# Altium footprint library BoardB.PcbLib: 15 footprints
Each footprint in its own frame and in the unit in brackets; x right, y up, seen from the top. Pads: shape width x height; smd on the part's side, far side on the other; paste and mask are expansions set on the pad; w line width, h text height; cw(c..) or ccw(c..) is an arc to the next point about the centre after c.
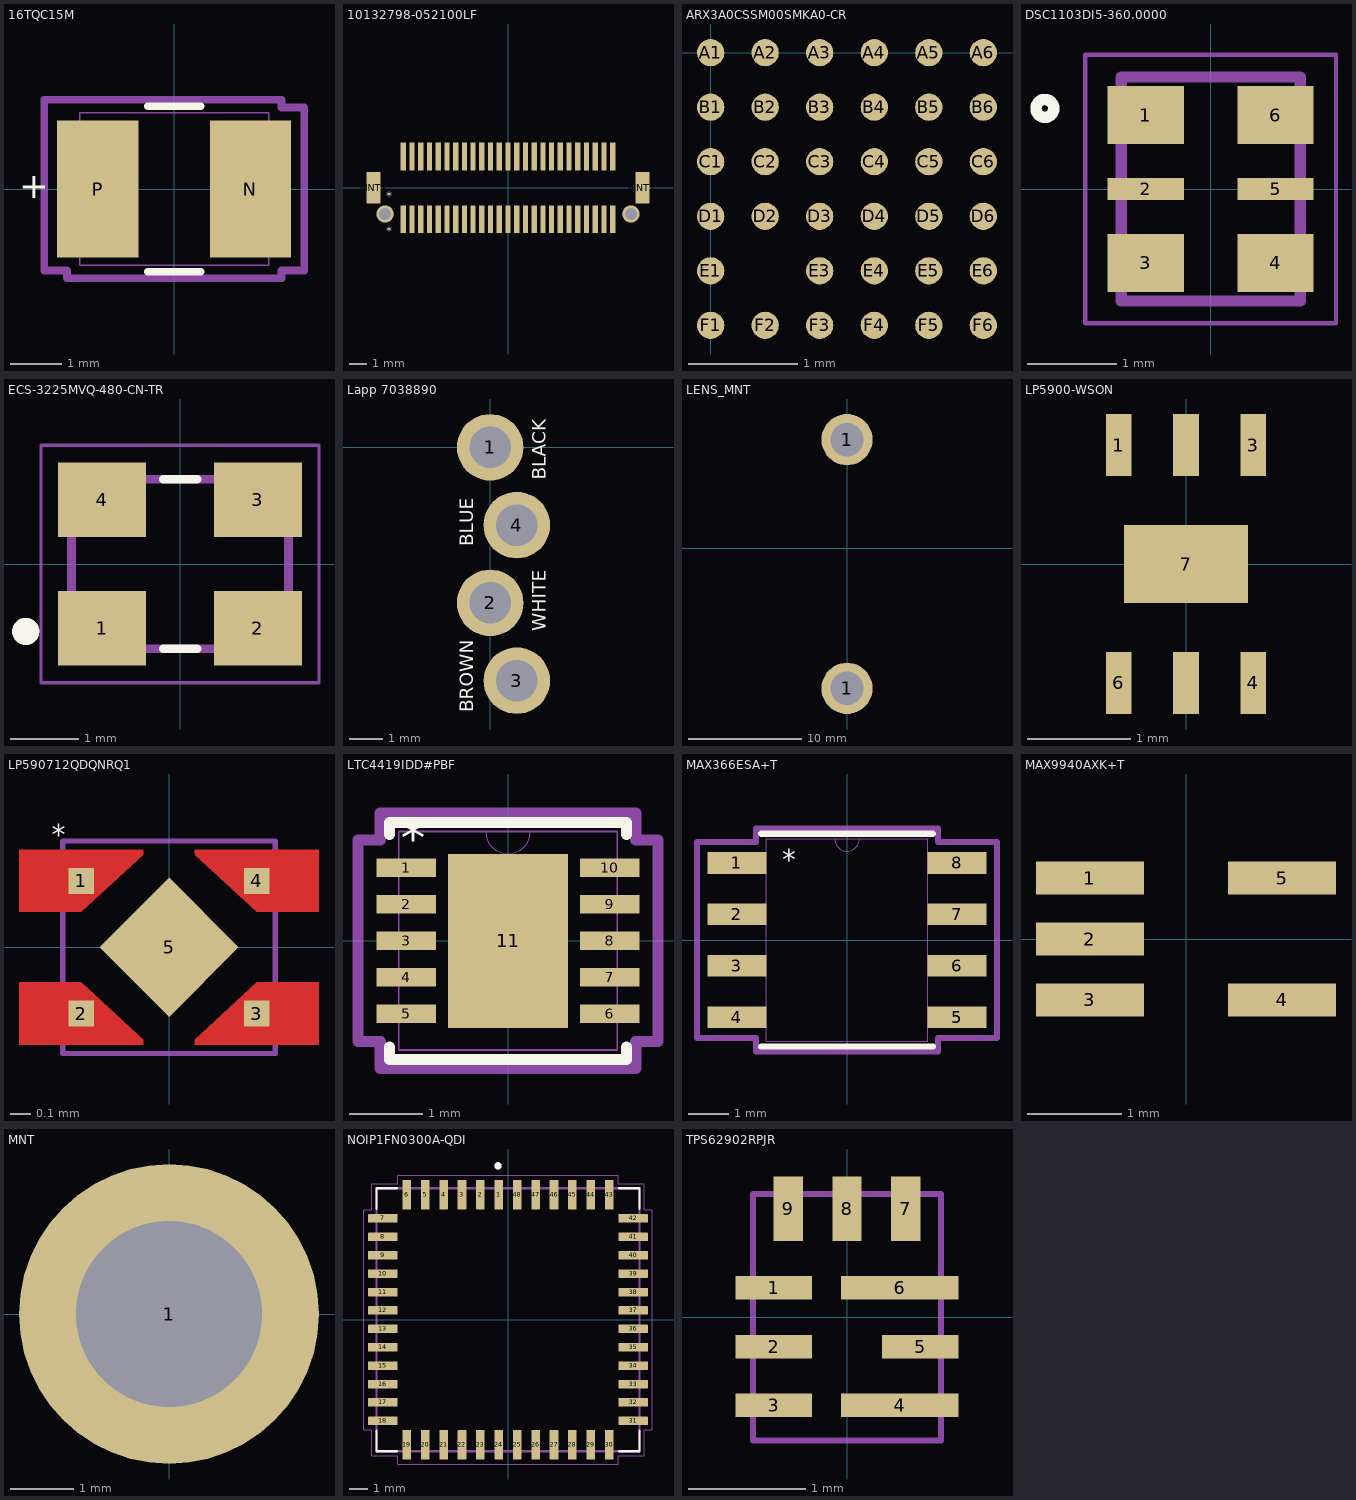
[diagram p0: the footprints below, top view; thin cyan lines are the x and y axes]

## 16TQC15M [mil]
pads (2):
  rect 63x106 smd paste+0 mask+0: N(59,0) P(-59,0)
Top Overlay:
  lines w6: -20.39,-64 20.39,-64 ; -20.39,64 20.39,64
  text "+" at -120.08,-7.27 h20
Mechanical 13:
  lines w1: -73,-59 73,-59 73,59 -73,59 -73,-59
Mechanical 15:
  lines w6: -100.5,-63 -100.5,69 -83,69 83,69 83,63 100.5,63 100.5,-63 83,-63 83,-69 -83,-69 -83,-63 -100.5,-63
3D body: height 10, standoff 0, extent 0,0 10,10
3D body "16TQC15M.step": height 79.52, standoff 0.5, extent -72.99,-59.09 73,59.1

## 10132798-052100LF [mm]
pads (54):
  rect 0.3x1.6 smd: 1(-6,-1.8) 2(-5.5,-1.8) 3(-5,-1.8) 4(-4.5,-1.8) 5(-4,-1.8) 6(-3.5,-1.8) 7(-3,-1.8) 8(-2.5,-1.8) 9(-2,-1.8) 10(-1.5,-1.8) 11(-1,-1.8) 12(-0.5,-1.8) 13(0,-1.8) 14(0.5,-1.8) 15(1,-1.8) 16(1.5,-1.8) 17(2,-1.8) 18(2.5,-1.8) 19(3,-1.8) 20(3.5,-1.8) 21(4,-1.8) 22(4.5,-1.8) 23(5,-1.8) 24(5.5,-1.8) 25(6,-1.8) 26(-6,1.8) 27(-5.5,1.8) 28(-5,1.8) 29(-4.5,1.8) 30(-4,1.8) 31(-3.5,1.8) 32(-3,1.8) 33(-2.5,1.8) 34(-2,1.8) 35(-1.5,1.8) 36(-1,1.8) 37(-0.5,1.8) 38(0,1.8) 39(0.5,1.8) 40(1,1.8) 41(1.5,1.8) 42(2,1.8) 43(2.5,1.8) 44(3,1.8) 45(3.5,1.8) 46(4,1.8) 47(4.5,1.8) 48(5,1.8) 49(5.5,1.8) 50(6,1.8)
  rect 0.8x1.8 smd: MNT1(-7.7,0) MNT2(7.7,0)
  round 1 hole 0.7: MNT1(-7.05,-1.5) MNT2(7.05,-1.5)
Top Overlay:
  text "*" at -6.625,-0.733 h0.5
  text "*" at -6.625,-2.733 h0.5
3D body "10132798-052100LF.stp": height 2.7, standoff -0.5, extent -7.8,-2.3 7.8,2.3

## ARX3A0CSSM00SMKA0-CR [mm]
pads (35):
  round 0.25 smd: A1(0,0) A2(0.5,0) A3(1,0) A4(1.5,0) A5(2,0) A6(2.5,0) B1(0,-0.5) B2(0.5,-0.5) B3(1,-0.5) B4(1.5,-0.5) B5(2,-0.5) B6(2.5,-0.5) C1(0,-1) C2(0.5,-1) C3(1,-1) C4(1.5,-1) C5(2,-1) C6(2.5,-1) D1(0,-1.5) D2(0.5,-1.5) D3(1,-1.5) D4(1.5,-1.5) D5(2,-1.5) D6(2.5,-1.5) E1(0,-2) E3(1,-2) E4(1.5,-2) E5(2,-2) E6(2.5,-2) F1(0,-2.5) F2(0.5,-2.5) F3(1,-2.5) F4(1.5,-2.5) F5(2,-2.5) F6(2.5,-2.5)
3D body "ARX3A0CSSM00SMKA0-CR.step": height 0.73, standoff 0.01, extent -0.444,-2.957 2.946,0.483

## DSC1103DI5-360.0000 [mm]
pads (6):
  rect 0.85x0.65 smd: 1(-0.725,0.825) 3(-0.725,-0.825) 4(0.725,-0.825) 6(0.725,0.825)
  rect 0.85x0.25 smd: 2(-0.725,0) 5(0.725,0)
Top Overlay:
  circle w0.127: c-1.85,0.9 r0.1
Mechanical 13:
  lines w0.127: -1,-1.25 1,-1.25 1,1.25 -1,1.25 -1,-1.25
Mechanical 15:
  lines w0.05: -1.4,-1.5 1.4,-1.5 1.4,1.5 -1.4,1.5 -1.4,-1.5
3D body "step_temp.STEP": height 0.88, standoff -0.02, extent -1,-1.25 1,1.25

## ECS-3225MVQ-480-CN-TR [mm]
pads (4):
  rect 1.3x1.1 smd: 1(-1.15,-0.95) 2(1.15,-0.95) 3(1.15,0.95) 4(-1.15,0.95)
Top Overlay:
  circle w0.2: c-2.275,-0.994 r0.1
  lines w0.127: -0.25,-1.25 0.25,-1.25 ; -0.25,1.25 0.25,1.25
Mechanical 13:
  circle w0.2: c-2.275,-0.994 r0.1
  lines w0.127: -1.6,-1.25 1.6,-1.25 1.6,1.25 -1.6,1.25 -1.6,-1.25
Mechanical 15:
  lines w0.05: -2.05,-1.75 -2.05,1.75 2.05,1.75 2.05,-1.75 -2.05,-1.75
3D body "ECS-3225MVQ-480-CN-TR.step": height 1.21, standoff 0.01, extent -1.6,-1.255 1.6,1.245

## Lapp 7038890 [mm]
pads (4):
  round 2 hole 1.25: 1(0,0) 2(0,-4.667) 3(0.8,-7) 4(0.8,-2.333)
Top Overlay:
  text "BLUE" at -0.505,-2.97 h0.4
  text "WHITE" at 1.67,-5.52 h0.4
  text "BROWN" at -0.505,-7.945 h0.4
  text "BLACK" at 1.67,-0.97 h0.4
Bottom Overlay:
  text "BLUE" at -0.497,-1.515 h0.4
  text "WHITE" at 1.678,-3.708 h0.4
  text "BROWN" at -0.495,-6.083 h0.4
  text "BLACK" at 1.67,0.895 h0.4
  text "LAPP 7038890" at -1.28,-1.03 h0.4

## LENS_MNT [mil]
pads (2):
  round 178.5 hole 116: 1(0,-488.19) 1(0,377.95)
3D body "LENS_MNT.step": height 896.13, standoff -164.32, extent -401.57,-579.69 401.58,469.46

## LP5900-WSON [mm]
pads (7):
  rrect0% 0.25x0.6 smd: 1(-0.65,1.15) 3(0.65,1.15) 4(0.65,-1.15) 6(-0.65,-1.15) ""(0,-1.15) ""(0,1.15)
  rrect0% 1.2x0.75 smd: 7(0,0)
3D body "LP5900-WSON.step": height 0.8, standoff 0, extent -1.092,-1.25 1.108,1.25

## LP590712QDQNRQ1 [mil]
pads (5):
  rect 5x5 smd: 1(-16.93,12.8) 2(-16.93,-12.8) 3(16.93,-12.8) 4(16.93,12.8)
  rect 19x19 smd rot 45 paste-9.5 mask+0: 5(0,0)
Top Layer:
  region: -4.93,-17.8 -4.93,-18.8 -28.93,-18.8 -28.93,-6.8 -16.93,-6.8
  region: 0,9.5
  region: 0,-9.5
  region: 4.93,-17.8 4.93,-18.8 28.93,-18.8 28.93,-6.8 16.93,-6.8
  region: 4.93,17.8 4.93,18.8 28.93,18.8 28.93,6.8 16.93,6.8
  region: -4.93,17.8 -4.93,18.8 -28.93,18.8 -28.93,6.8 -16.93,6.8
Top Overlay:
  text "*" at -22.61,19.74 h3.94
Top Solder:
  region: 0,9.5
  region: 0,-9.5
Mechanical 13:
  lines w1: -20.5,-20.5 20.5,-20.5 20.5,20.5 -20.5,20.5 -20.5,-20.5
3D body "LP590712QDQNRQ1.stp": height 14.39, standoff 0.21, extent -19.69,-19.68 19.68,19.69

## LTC4419IDD#PBF [mil]
pads (11):
  rect 32x10 smd paste+0 mask+0: 1(-55,39.37) 2(-55,19.68) 3(-55,0) 4(-55,-19.68) 5(-55,-39.37) 6(55,-39.37) 7(55,-19.68) 8(55,0) 9(55,19.68) 10(55,39.37)
  rect 65x94 smd paste+0 mask+0: 11(0,0)
Top Overlay:
  lines w6: -64,-57.47 -64,-64 64,-64 64,-57.47 ; -64,57.47 -64,64 64,64 64,57.47
  text "*" at -58.03,45.69 h19.68
Mechanical 13:
  lines w0: -12,59 ccw(c0,59) 12,59
  lines w1: -59,-59 59,-59 59,59 -59,59 -59,-59
Mechanical 15:
  lines w6: -81,-54.37 -81,54.37 -69,54.37 -69,69 69,69 69,54.37 81,54.37 81,-54.37 69,-54.37 69,-69 -69,-69 -69,-54.37 -81,-54.37
3D body: height 10, standoff 0, extent 0,0 10,10
3D body "LTC4419IDD#PBF.step": height 31.5, standoff 0, extent -59,-59.06 59.11,59.06

## MAX366ESA+T [mil]
pads (8):
  rect 57.5x21 smd paste+0 mask+0: 1(-107.25,75) 2(-107.25,25) 3(-107.25,-25) 4(-107.25,-75) 5(107.25,-75) 6(107.25,-25) 7(107.25,25) 8(107.25,75)
Top Overlay:
  lines w6: -83.5,-103.5 83.5,-103.5 ; -83.5,103.5 83.5,103.5
  text "*" at -63,69 h19.68
Mechanical 13:
  lines w0: -12,98.5 ccw(c0,98.5) 12,98.5
  lines w1: -122,-84.5 -78.5,-84.5 -78.5,-65.5 -122,-65.5 -122,-84.5 ; -122,-34.5 -78.5,-34.5 -78.5,-15.5 -122,-15.5 -122,-34.5 ; -122,15.5 -78.5,15.5 -78.5,34.5 -122,34.5 -122,15.5 ; -122,65.5 -78.5,65.5 -78.5,84.5 -122,84.5 -122,65.5 ; -78.5,-98.5 -78.5,98.5 78.5,98.5 78.5,-98.5 -78.5,-98.5 ; 78.5,-84.5 122,-84.5 122,-65.5 78.5,-65.5 78.5,-84.5 ; 78.5,-34.5 122,-34.5 122,-15.5 78.5,-15.5 78.5,-34.5 ; 78.5,15.5 122,15.5 122,34.5 78.5,34.5 78.5,15.5 ; 78.5,65.5 122,65.5 122,84.5 78.5,84.5 78.5,65.5
  text "*" at -63,69 h19.68
Mechanical 15:
  lines w6: -146,-95.5 -88.5,-95.5 -88.5,-108.5 88.5,-108.5 88.5,-95.5 146,-95.5 146,95.5 88.5,95.5 88.5,108.5 -88.5,108.5 -88.5,95.5 -146,95.5 -146,-95.5
3D body: height 10, standoff 0, extent 0,0 10,10
3D body "MAX366ESA+T.step": height 69.09, standoff 0, extent -122,-97.5 122.01,99.51

## MAX9940AXK+T [mm]
pads (5):
  rect 1.15x0.35 smd paste+0 mask+0: 1(-1.025,0.65) 2(-1.025,0) 3(-1.025,-0.65) 4(1.025,-0.65) 5(1.025,0.65)
3D body "MAX9940.step": height 1.09, standoff 0, extent -1.194,-1.105 1.194,1.105

## MNT [mil]
pads (1):
  round 187.5 hole 116: 1(0,0)
3D body "MNT_Spacer.step": height 196.85, standoff 0, extent -93.75,-93.75 93.75,93.75

## NOIP1FN0300A-QDI [mm]
pads (48):
  rrect12% 0.47x1.63 smd: 1(-0.508,6.905) 2(-1.524,6.905) 3(-2.54,6.905) 4(-3.556,6.905) 5(-4.572,6.905) 6(-5.588,6.905) 19(-5.588,-6.905) 20(-4.572,-6.905) 21(-3.556,-6.905) 22(-2.54,-6.905) 23(-1.524,-6.905) 24(-0.508,-6.905) 25(0.508,-6.905) 26(1.524,-6.905) 27(2.54,-6.905) 28(3.556,-6.905) 29(4.572,-6.905) 30(5.588,-6.905) 43(5.588,6.905) 44(4.572,6.905) 45(3.556,6.905) 46(2.54,6.905) 47(1.524,6.905) 48(0.508,6.905)
  rrect12% 1.63x0.47 smd: 7(-6.905,5.588) 8(-6.905,4.572) 9(-6.905,3.556) 10(-6.905,2.54) 11(-6.905,1.524) 12(-6.905,0.508) 13(-6.905,-0.508) 14(-6.905,-1.524) 15(-6.905,-2.54) 16(-6.905,-3.556) 17(-6.905,-4.572) 18(-6.905,-5.588) 31(6.905,-5.588) 32(6.905,-4.572) 33(6.905,-3.556) 34(6.905,-2.54) 35(6.905,-1.524) 36(6.905,-0.508) 37(6.905,0.508) 38(6.905,1.524) 39(6.905,2.54) 40(6.905,3.556) 41(6.905,4.572) 42(6.905,5.588)
Top Overlay:
  circle w0.2: c-0.553,8.494 r0.1
  lines w0.127: -7.26,-6.127 -7.26,-7.26 -6.127,-7.26 ; -7.26,6.127 -7.26,7.26 -6.127,7.26 ; 6.127,-7.26 7.26,-7.26 7.26,-6.127 ; 6.127,7.26 7.26,7.26 7.26,6.127
Mechanical 13:
  circle w0.2: c-0.553,8.494 r0.1
  lines w0.127: -7.26,-7.26 7.26,-7.26 7.26,7.26 -7.26,7.26 -7.26,-7.26
Mechanical 15:
  lines w0.05: -7.97,-6.08 -7.97,6.08 -7.51,6.08 -7.51,7.51 -6.08,7.51 -6.08,7.97 6.08,7.97 6.08,7.51 7.51,7.51 7.51,6.08 7.97,6.08 7.97,-6.08 7.51,-6.08 7.51,-7.51 6.08,-7.51 6.08,-7.97 -6.08,-7.97 -6.08,-7.51 -7.51,-7.51 -7.51,-6.08 -7.97,-6.08
3D body "NOIP1FN0300A-QDI.step": height 2.28, standoff 0, extent -7.11,-7.11 7.11,7.11

## TPS62902RPJR [mm]
pads (9):
  rrect1% 0.65x0.2 smd: 1(-0.625,0.25) 2(-0.625,-0.25) 3(-0.625,-0.75) 5(0.625,-0.25)
  rrect1% 1x0.2 smd: 4(0.45,-0.75) 6(0.45,0.25)
  rrect1% 0.25x0.55 smd: 7(0.5,0.925) 8(0,0.925) 9(-0.5,0.925)
Mechanical 15:
  lines w0.05: -0.8,-1.05 -0.8,1.05 0.8,1.05 0.8,-1.05 -0.8,-1.05
3D body "TPS62902.stp": height 0.9, standoff 0, extent -0.75,-1 0.75,1